# Altium footprint library connectors.PcbLib: 4 footprints
Each footprint in its own frame and in the unit in brackets; x right, y up, seen from the top. Pads: shape width x height; smd on the part's side, far side on the other; paste and mask are expansions set on the pad; w line width, h text height; cw(c..) or ccw(c..) is an arc to the next point about the centre after c.
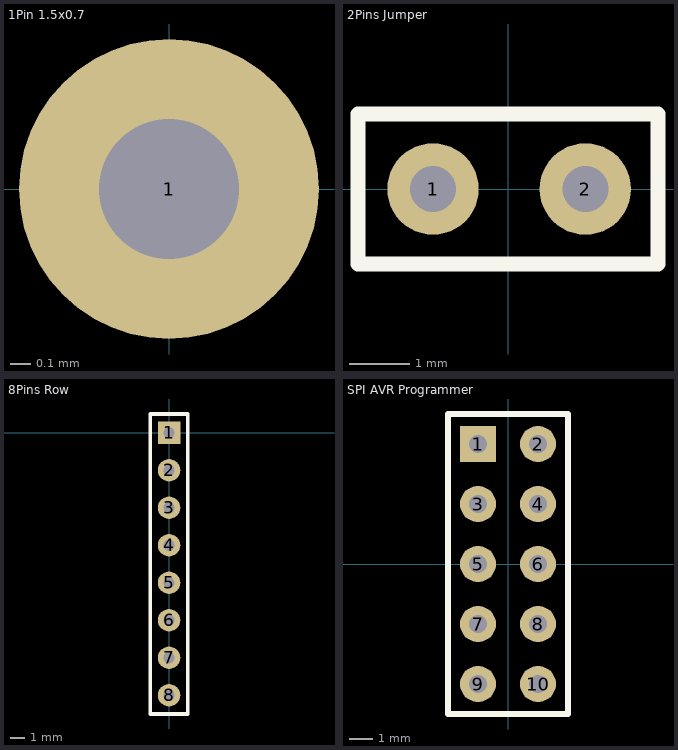
[diagram p0: the footprints below, top view; thin cyan lines are the x and y axes]

## 1Pin 1.5x0.7 [mm] "Single Pin or Hole"
height 8.54
pads (1):
  round 1.5 hole 0.7: 1(0,0)

## 2Pins Jumper [mil]
height 336.22
pads (2):
  round 60 hole 30: 1(-49.21,0) 2(50.79,0)
Top Overlay:
  lines w10: -98.43,-49.21 98.43,-49.21 98.43,49.21 -98.43,49.21 -98.43,-49.21

## 8Pins Row [mil]
height 336.22
pads (8):
  rect 60x60 hole 30: 1(0,0)
  round 60 hole 30: 2(0,-100) 3(0,-200) 4(0,-300) 5(0,-400) 6(0,-500) 7(0,-600) 8(0,-700)
Top Overlay:
  lines w10: -50,-750 -50,50 50,50 50,-750 -50,-750

## SPI AVR Programmer [mil]
height 336.22
pads (10):
  rect 60x60 hole 30: 1(-50,200)
  round 60 hole 30: 2(50,200) 3(-50,100) 4(50,100) 5(-50,0) 6(50,0) 7(-50,-100) 8(50,-100) 9(-50,-200) 10(50,-200)
Top Overlay:
  lines w10: -100,-250 100,-250 100,250 -100,250 -100,-250